# Altium integrated library Altera Stratix IV GT.IntLib: 42 symbols (part 34 of 84)
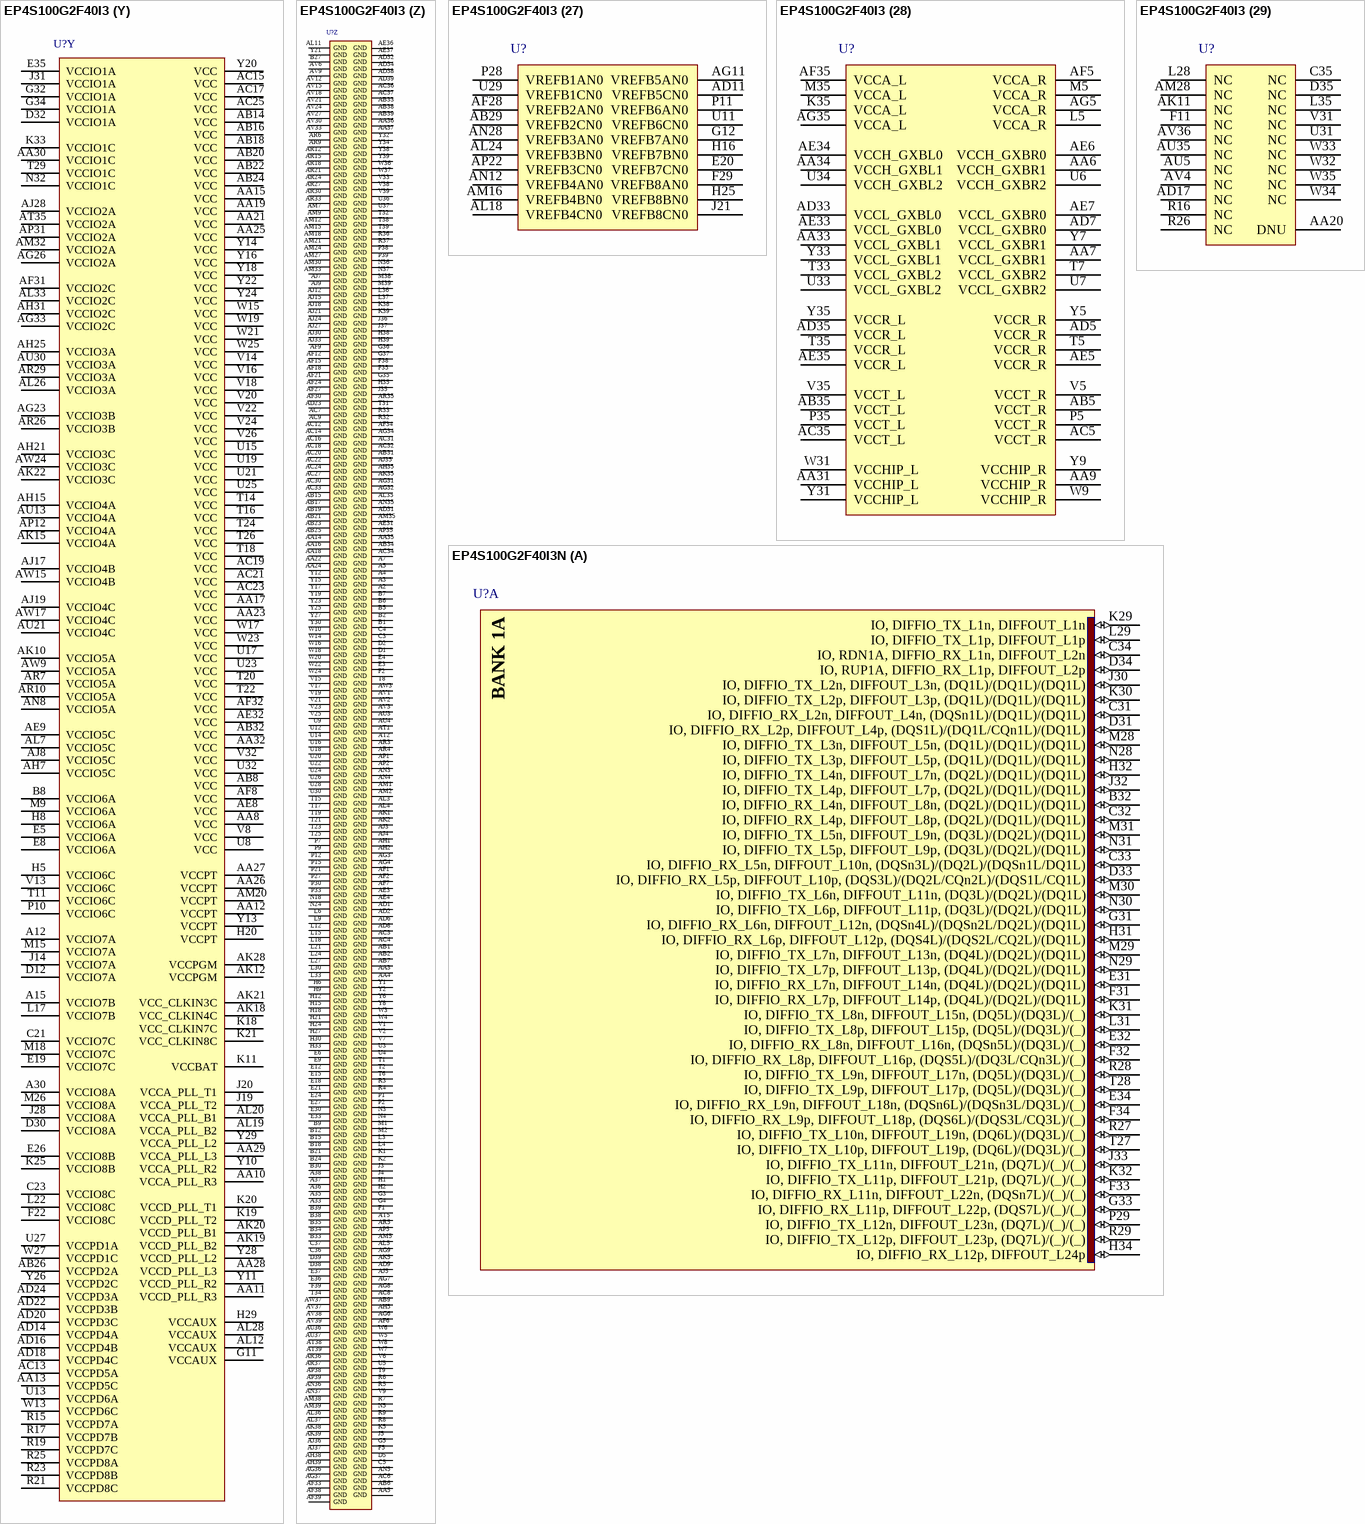
[diagram p302: symbols EP4S100G2F40I3 to EP4S100G2F40I3N]

## EP4S100G2F40I3 (continued)
part Z pins: A2 GND (power), A3 GND (power), A4 GND (power), A5 GND (power), A7 GND (power), A33 GND (power), A35 GND (power), A36 GND (power), A37 GND (power), A38 GND (power), AA3 GND (power), AA4 GND (power), AA5 GND (power), AA14 GND (power), AA16 GND (power), AA18 GND (power), AA22 GND (power), AA24 GND (power), AA35 GND (power), AA36 GND (power), AA37 GND (power), AB1 GND (power), AB2 GND (power), AB6 GND (power), AB7 GND (power), AB9 GND (power), AB15 GND (power), AB17 GND (power), AB19 GND (power), AB21 GND (power), AB23 GND (power), AB25 GND (power), AB31 GND (power), AB33 GND (power), AB34 GND (power), AB38 GND (power), AB39 GND (power), AC3 GND (power), AC4 GND (power), AC6 GND (power), AC7 GND (power), AC8 GND (power), AC9 GND (power), AC12 GND (power), AC14 GND (power), AC16 GND (power), AC18 GND (power), AC20 GND (power), AC22 GND (power), AC24 GND (power), AC27 GND (power), AC30 GND (power), AC31 GND (power), AC32 GND (power), AC33 GND (power), AC34 GND (power), AC36 GND (power), AC37 GND (power), AD1 GND (power), AD2 GND (power), AD6 GND (power), AD8 GND (power), AD9 GND (power), AD23 GND (power), AD31 GND (power), AD32 GND (power), AD34 GND (power), AD38 GND (power), AD39 GND (power), AE3 GND (power), AE4 GND (power), AE31 GND (power), AE36 GND (power), AE37 GND (power), AF1 GND (power), AF2 GND (power), AF6 GND (power), AF7 GND (power), AF9 GND (power), AF12 GND (power), AF15 GND (power), AF18 GND (power), AF21 GND (power), AF24 GND (power), AF27 GND (power), AF30 GND (power), AF33 GND (power), AF34 GND (power), AF38 GND (power), AF39 GND (power), AG3 GND (power), AG4 GND (power), AG6 GND (power), AG7 GND (power), AG8 GND (power), AG9 GND (power), AG31 GND (power), AG32 GND (power), AG34 GND (power), AG36 GND (power), AG37 GND (power), AH1 GND (power), AH2 GND (power), AH5 GND (power), AH35 GND (power), AH38 GND (power), AH39 GND (power), AJ3 GND (power), AJ4 GND (power), AJ5 GND (power), AJ7 GND (power), AJ9 GND (power), AJ12 GND (power), AJ15 GND (power), AJ18 GND (power), AJ21 GND (power), AJ24 GND (power), AJ27 GND (power), AJ30 GND (power), AJ33 GND (power), AJ35 GND (power), AJ36 GND (power), AJ37 GND (power), AK1 GND (power), AK2 GND (power), AK5 GND (power), AK35 GND (power), AK38 GND (power), AK39 GND (power), AL3 GND (power), AL4 GND (power), AL5 GND (power), AL11 GND (power), AL35 GND (power), AL36 GND (power), AL37 GND (power), AM1 GND (power), AM2 GND (power), AM5 GND (power), AM7 GND (power), AM9 GND (power), AM12 GND (power), AM15 GND (power), AM18 GND (power), AM21 GND (power), AM24 GND (power), AM27 GND (power), AM30 GND (power), AM33 GND (power), AM35 GND (power), AM38 GND (power), AM39 GND (power), AN3 GND (power), AN4 GND (power), AN5 GND (power), AN35 GND (power), AN36 GND (power), AN37 GND (power), AP1 GND (power), AP2 GND (power), AP5 GND (power), AP35 GND (power), AP38 GND (power), AP39 GND (power), AR3 GND (power), AR4 GND (power), AR5 GND (power), AR6 GND (power), AR9 GND (power), AR12 GND (power), AR15 GND (power), AR18 GND (power), AR21 GND (power), AR24 GND (power), AR27 GND (power), AR30 GND (power), AR33 GND (power), AR35 GND (power), AR36 GND (power), AR37 GND (power), AT1 GND (power), AT2 GND (power), AT5 GND (power), AT38 GND (power), AT39 GND (power), AU3 GND (power), AU4 GND (power), AU36 GND (power), AU37 GND (power), AV1 GND (power), AV2 GND (power), AV3 GND (power), AV6 GND (power), AV9 GND (power), AV12 GND (power), AV15 GND (power), AV18 GND (power), AV21 GND (power), AV24 GND (power), AV27 GND (power), AV30 GND (power), AV33 GND (power), AV37 GND (power), AV38 GND (power), AV39 GND (power), AW3 GND (power), AW37 GND (power), B1 GND (power), B2 GND (power), B5 GND (power), B6 GND (power), B7 GND (power), B9 GND (power), B12 GND (power), B15 GND (power), B18 GND (power), B21 GND (power), B24 GND (power), B27 GND (power), B30 GND (power), B33 GND (power), B34 GND (power), B35 GND (power), B38 GND (power), B39 GND (power), C3 GND (power), C4 GND (power), C5 GND (power), C36 GND (power), C37 GND (power), D1 GND (power), D2 GND (power), D5 GND (power), D38 GND (power), D39 GND (power), E3 GND (power), E4 GND (power), E6 GND (power), E9 GND (power), E12 GND (power), E15 GND (power), E18 GND (power), E21 GND (power), E24 GND (power), E27 GND (power), E30 GND (power), E33 GND (power), E36 GND (power), E37 GND (power), F1 GND (power), F2 GND (power), F5 GND (power), F35 GND (power), F38 GND (power), F39 GND (power), G3 GND (power), G4 GND (power), G5 GND (power), G35 GND (power), G36 GND (power), G37 GND (power), H1 GND (power), H2 GND (power), H6 GND (power), H9 GND (power), H12 GND (power), H15 GND (power), H18 GND (power), H21 GND (power), H24 GND (power), H27 GND (power), H30 GND (power), H33 GND (power), H35 GND (power), H38 GND (power), H39 GND (power), J3 GND (power), J4 GND (power), J5 GND (power), J35 GND (power), J36 GND (power), J37 GND (power), K1 GND (power), K2 GND (power), K5 GND (power), K38 GND (power), K39 GND (power), L3 GND (power), L4 GND (power), L6 GND (power), L9 GND (power), L12 GND (power), L15 GND (power), L18 GND (power), L21 GND (power), L24 GND (power), L27 GND (power), L30 GND (power), L33 GND (power), L36 GND (power), L37 GND (power), M1 GND (power), M2 GND (power), M38 GND (power), M39 GND (power), N3 GND (power), N4 GND (power), N5 GND (power), N18 GND (power), N24 GND (power), N36 GND (power), N37 GND (power), P1 GND (power), P2 GND (power), P7 GND (power), P9 GND (power), P12 GND (power), P15 GND (power), P21 GND (power), P27 GND (power), P30 GND (power), P33 GND (power), P38 GND (power), P39 GND (power), R3 GND (power), R4 GND (power), R5 GND (power), R6 GND (power), R7 GND (power), R8 GND (power), R9 GND (power), R32 GND (power), R33 GND (power), R36 GND (power), R37 GND (power), T1 GND (power), T2 GND (power), T6 GND (power), T8 GND (power), T9 GND (power), T15 GND (power), T17 GND (power), T19 GND (power), T21 GND (power), T23 GND (power), T25 GND (power), T31 GND (power), T32 GND (power), T34 GND (power), T38 GND (power), T39 GND (power), U3 GND (power), U4 GND (power), U5 GND (power), U9 GND (power), U12 GND (power), U14 GND (power), U16 GND (power), U18 GND (power), U20 GND (power), U22 GND (power), U24 GND (power), U26 GND (power), U28 GND (power), U30 GND (power), U36 GND (power), U37 GND (power), V1 GND (power), V2 GND (power), V6 GND (power), V7 GND (power), V9 GND (power), V15 GND (power), V17 GND (power), V19 GND (power), V21 GND (power), V23 GND (power), V25 GND (power), V33 GND (power), V38 GND (power), V39 GND (power), W3 GND (power), W4 GND (power), W5 GND (power), W6 GND (power), W7 GND (power), W8 GND (power), W10 GND (power), W14 GND (power), W16 GND (power), W18 GND (power), W20 GND (power), W22 GND (power), W24 GND (power), W36 GND (power), W37 GND (power), Y1 GND (power), Y2 GND (power), Y6 GND (power), Y8 GND (power), Y12 GND (power), Y15 GND (power), Y17 GND (power), Y19 GND (power), Y21 GND (power), Y23 GND (power), Y25 GND (power), Y27 GND (power), Y30 GND (power), Y32 GND (power), Y34 GND (power), Y38 GND (power), Y39 GND (power)
part 27 pins: AB29 VREFB2CN0 (power), AD11 VREFB5CN0 (power), AF28 VREFB2AN0 (power), AG11 VREFB5AN0 (power), AL18 VREFB4CN0 (power), AL24 VREFB3BN0 (power), AM16 VREFB4BN0 (power), AN12 VREFB4AN0 (power), AN28 VREFB3AN0 (power), AP22 VREFB3CN0 (power), E20 VREFB7CN0 (power), F29 VREFB8AN0 (power), G12 VREFB7AN0 (power), H16 VREFB7BN0 (power), H25 VREFB8BN0 (power), J21 VREFB8CN0 (power), P11 VREFB6AN0 (power), P28 VREFB1AN0 (power), U11 VREFB6CN0 (power), U29 VREFB1CN0 (power)
part 28 pins: AA6 VCCH_GXBR1 (power), AA7 VCCL_GXBR1 (power), AA9 VCCHIP_R (power), AA31 VCCHIP_L (power), AA33 VCCL_GXBL1 (power), AA34 VCCH_GXBL1 (power), AB5 VCCT_R (power), AB35 VCCT_L (power), AC5 VCCT_R (power), AC35 VCCT_L (power), AD5 VCCR_R (power), AD7 VCCL_GXBR0 (power), AD33 VCCL_GXBL0 (power), AD35 VCCR_L (power), AE5 VCCR_R (power), AE6 VCCH_GXBR0 (power), AE7 VCCL_GXBR0 (power), AE33 VCCL_GXBL0 (power), AE34 VCCH_GXBL0 (power), AE35 VCCR_L (power), AF5 VCCA_R (power), AF35 VCCA_L (power), AG5 VCCA_R (power), AG35 VCCA_L (power), K35 VCCA_L (power), L5 VCCA_R (power), M5 VCCA_R (power), M35 VCCA_L (power), P5 VCCT_R (power), P35 VCCT_L (power), T5 VCCR_R (power), T7 VCCL_GXBR2 (power), T33 VCCL_GXBL2 (power), T35 VCCR_L (power), U6 VCCH_GXBR2 (power), U7 VCCL_GXBR2 (power), U33 VCCL_GXBL2 (power), U34 VCCH_GXBL2 (power), V5 VCCT_R (power), V35 VCCT_L (power), W9 VCCHIP_R (power), W31 VCCHIP_L (power), Y5 VCCR_R (power), Y7 VCCL_GXBR1 (power), Y9 VCCHIP_R (power), Y31 VCCHIP_L (power), Y33 VCCL_GXBL1 (power), Y35 VCCR_L (power)
part 29 pins: AA20 DNU, AD17 NC, AK11 NC, AM28 NC, AU5 NC, AU35 NC, AV4 NC, AV36 NC, C35 NC, D35 NC, F11 NC, L28 NC, L35 NC, R16 NC, R26 NC, U31 NC, V31 NC, W32 NC, W33 NC, W34 NC, W35 NC
part A text: BANK 1A
part B text: BANK 1C
part C text: BANK 2A
part D text: BANK 2C
part E text: BANK 3A
part F text: BANK 3B
part G text: BANK 3C
part H text: BANK 4A
part I text: BANK 4B
part J text: BANK 4C
part K text: BANK 5A
part L text: BANK 5C
part M text: BANK 6A
part N text: BANK 6C
part O text: BANK 7A
part P text: BANK 7B
part Q text: BANK 7C
part R text: BANK 8A
part S text: BANK 8B
part T text: BANK 8C

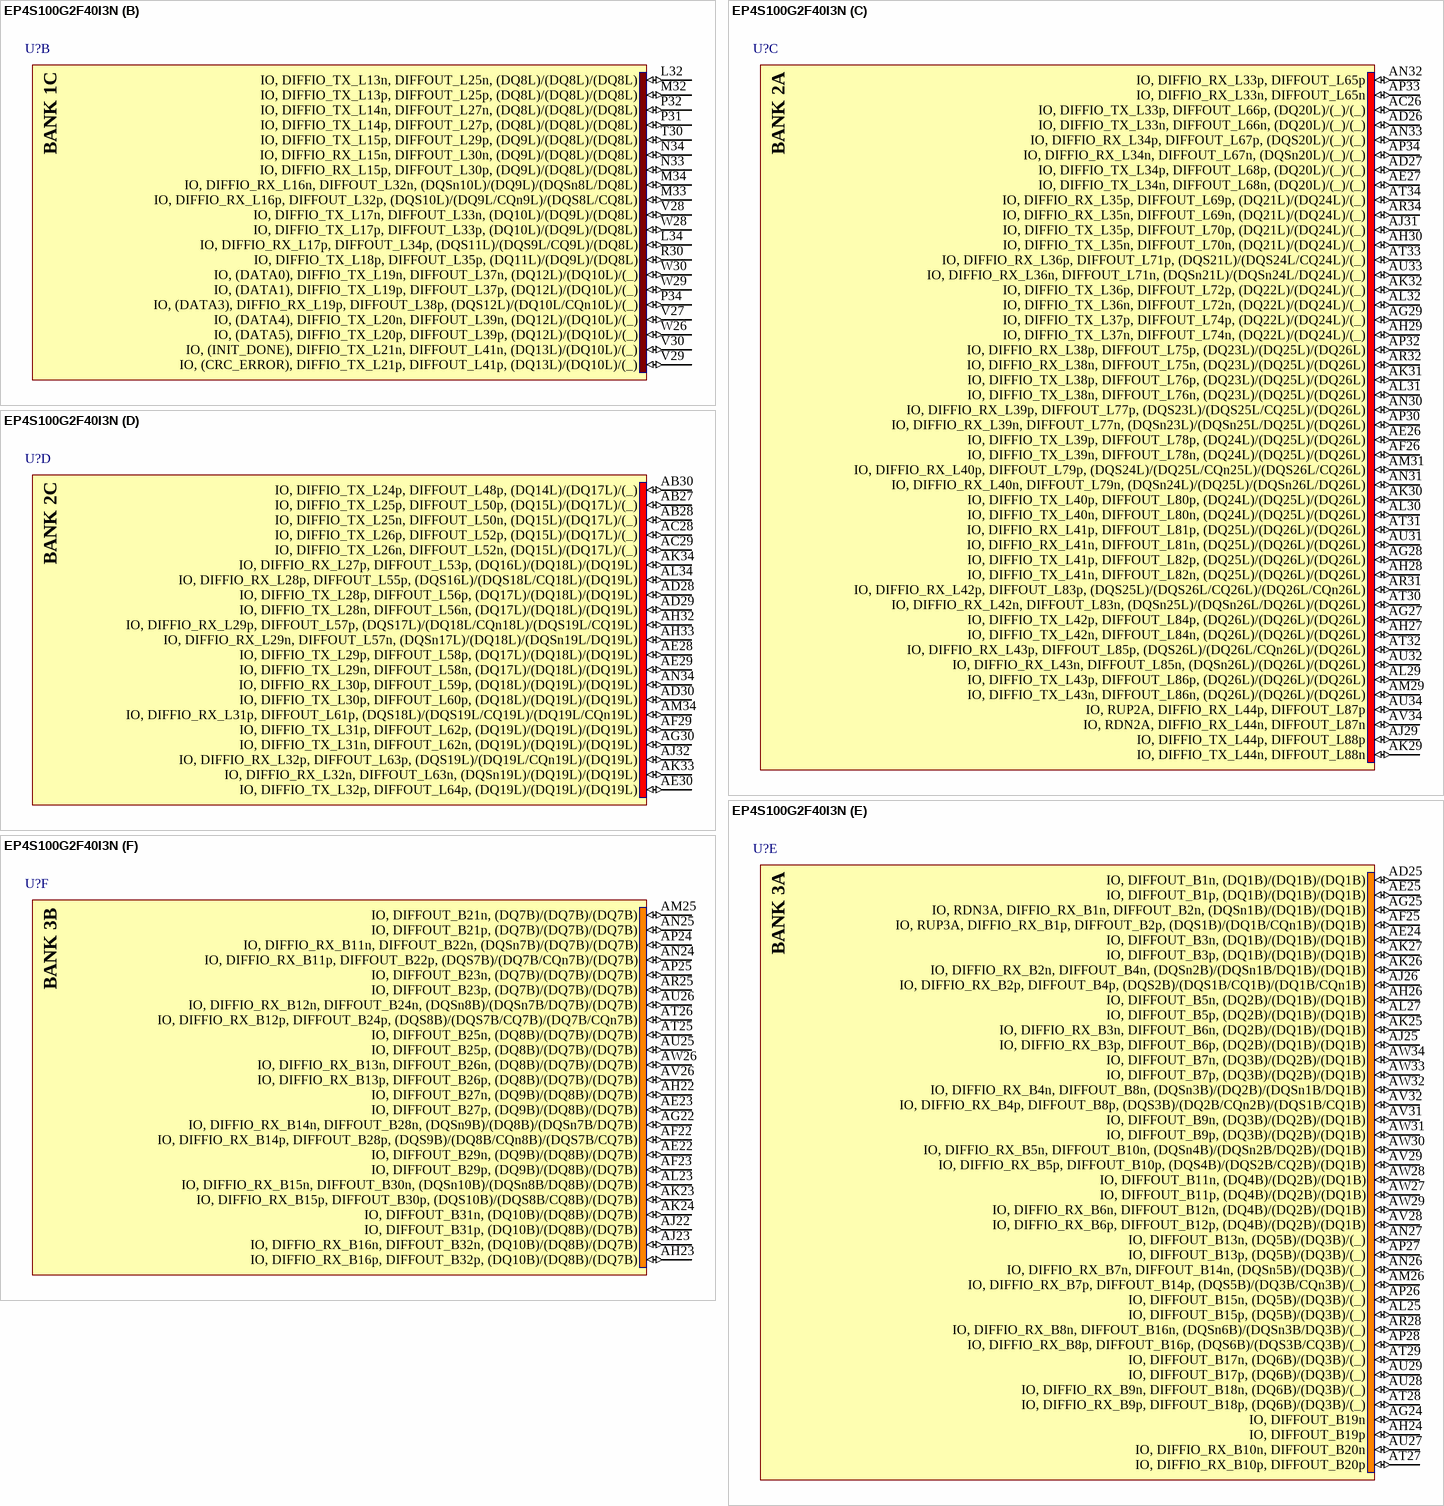
[diagram p102: symbol EP4S100G2F40I3N]

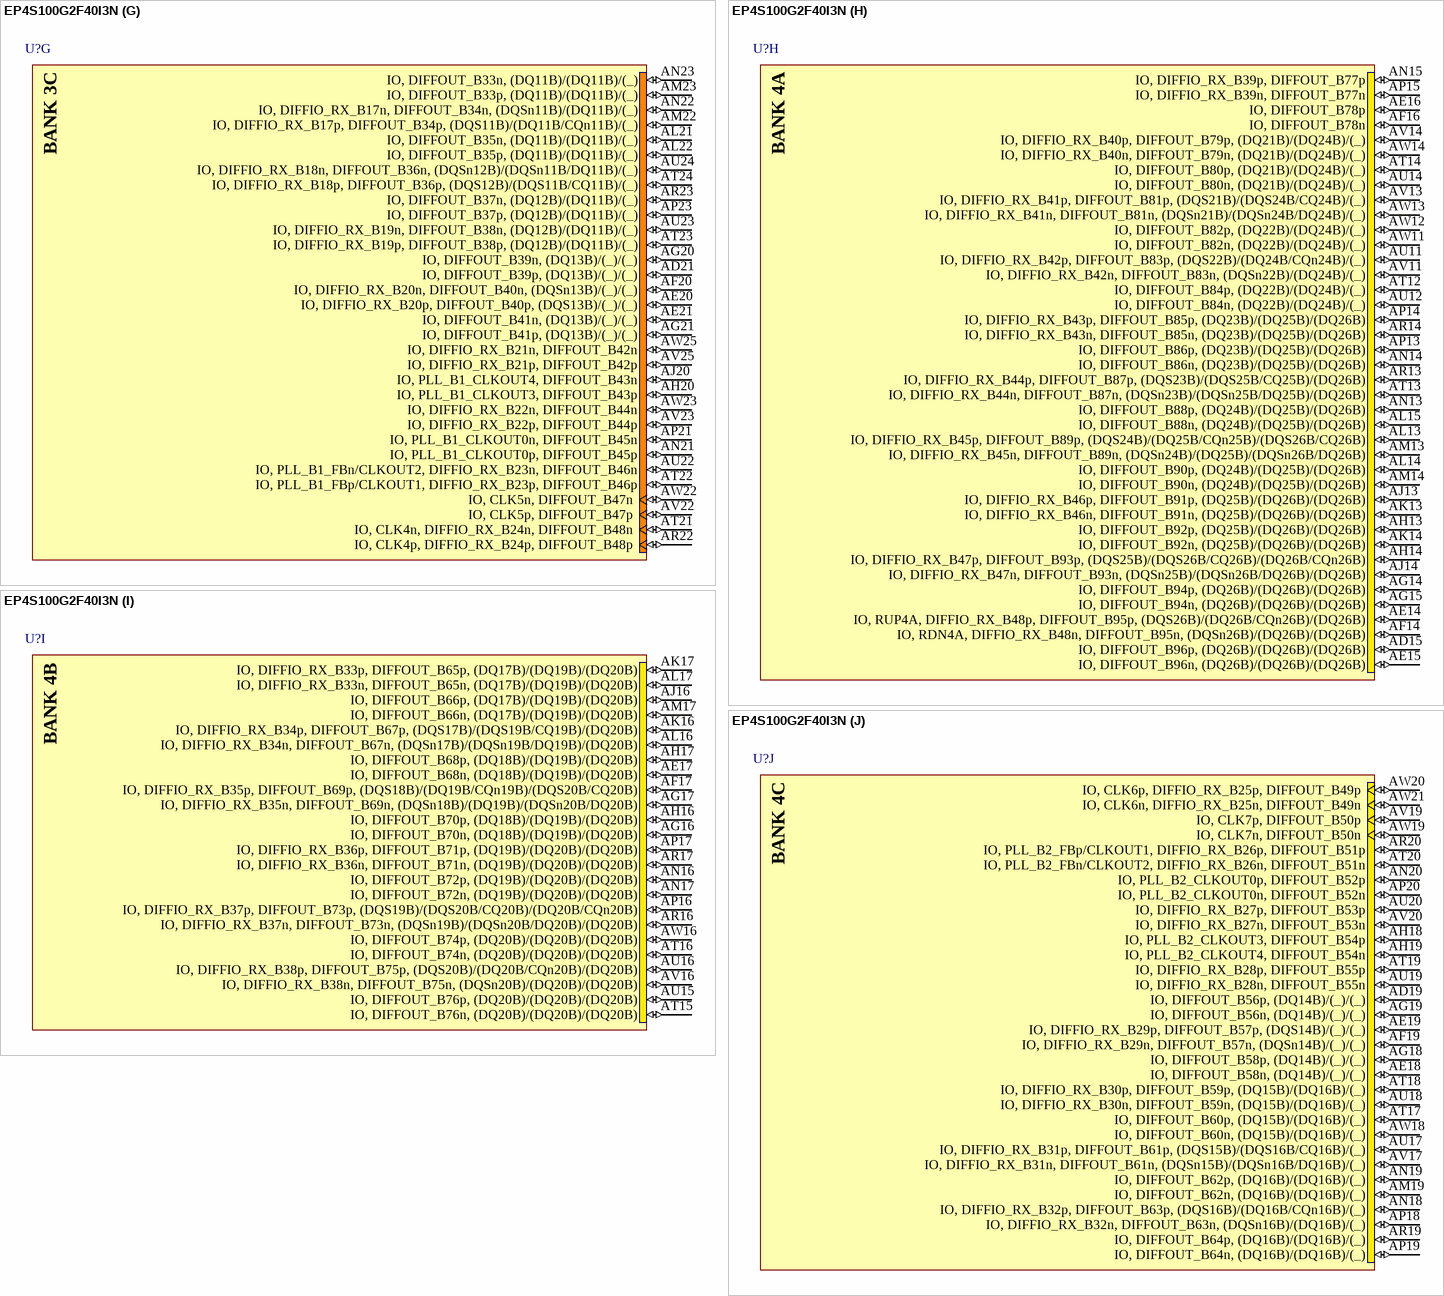
[diagram p103: symbol EP4S100G2F40I3N]

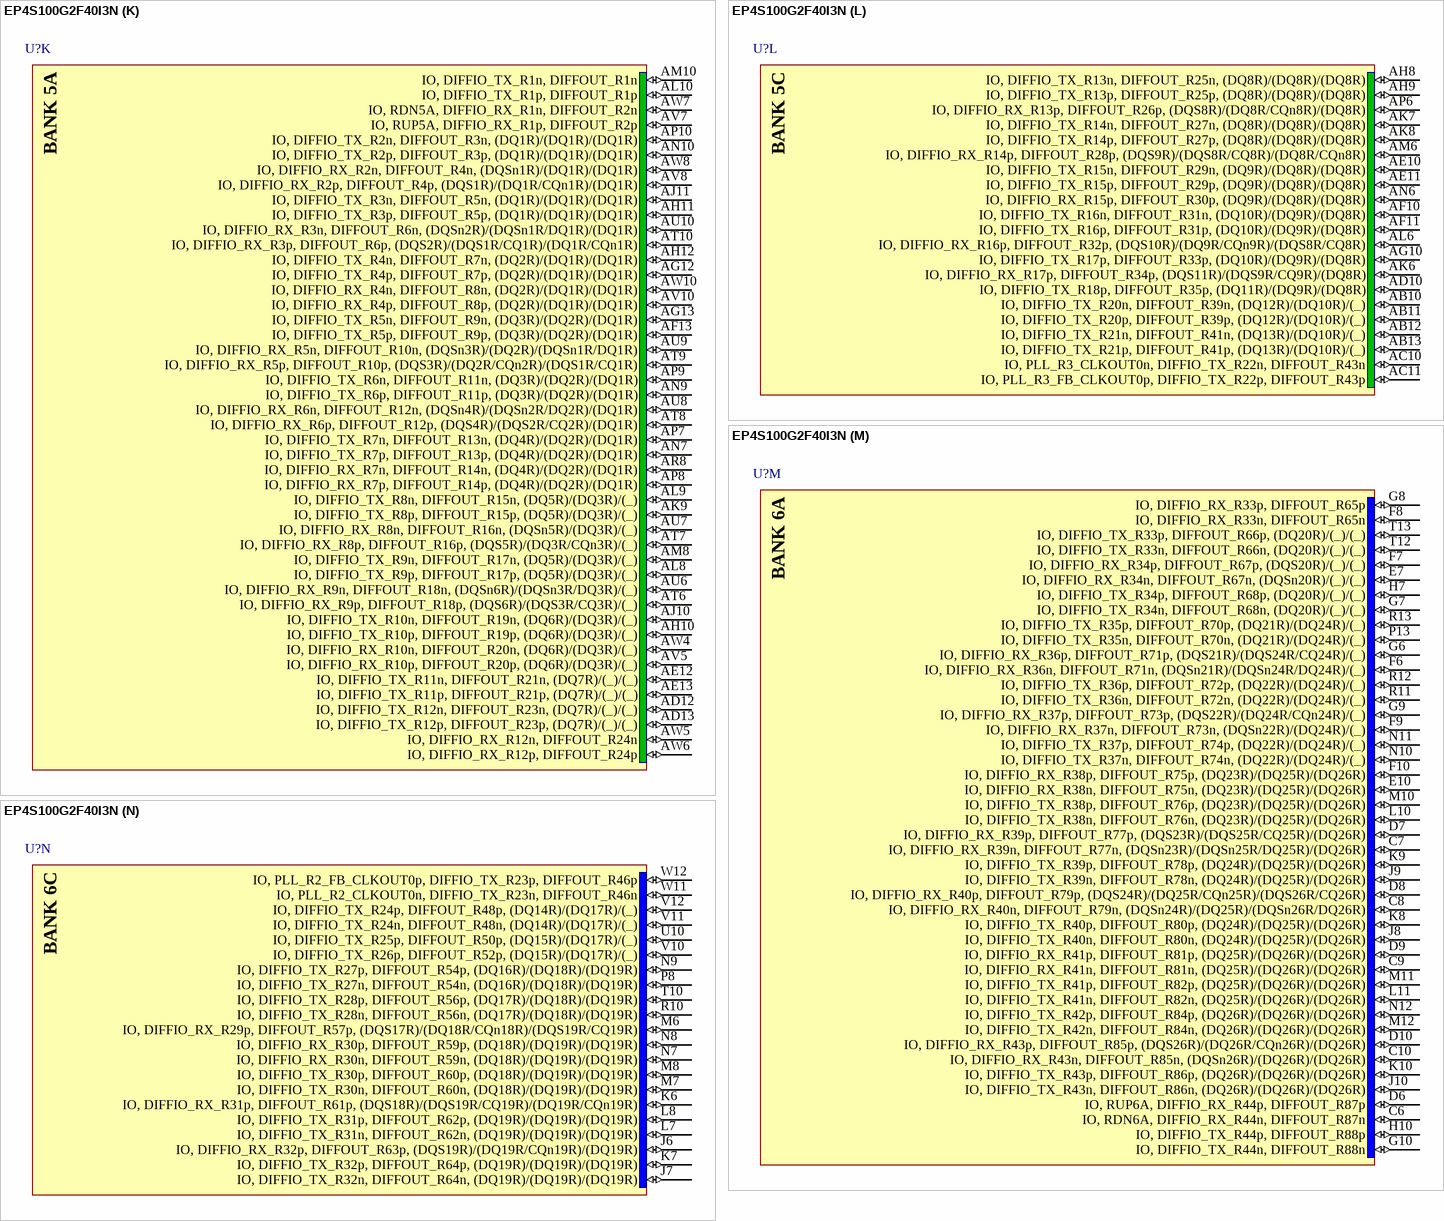
[diagram p104: symbol EP4S100G2F40I3N]

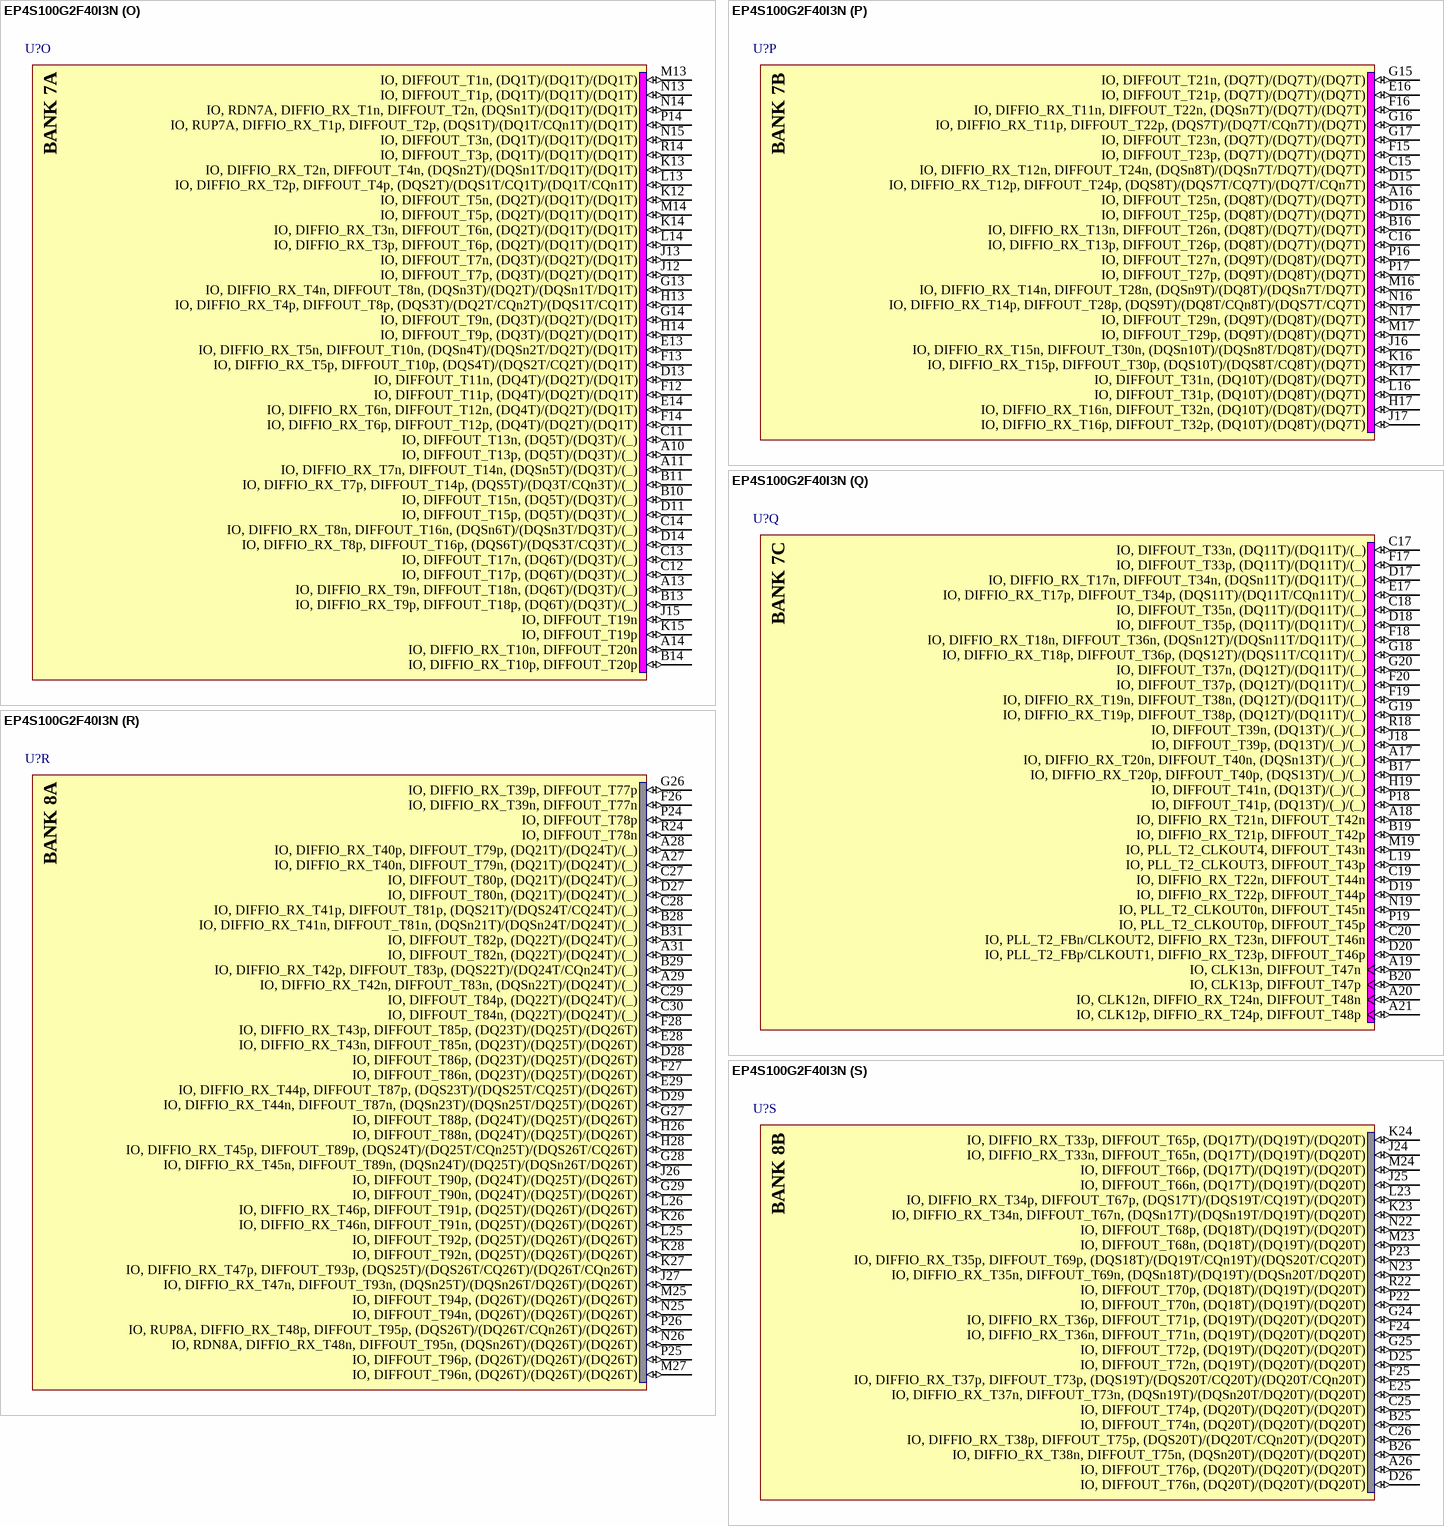
[diagram p105: symbol EP4S100G2F40I3N]

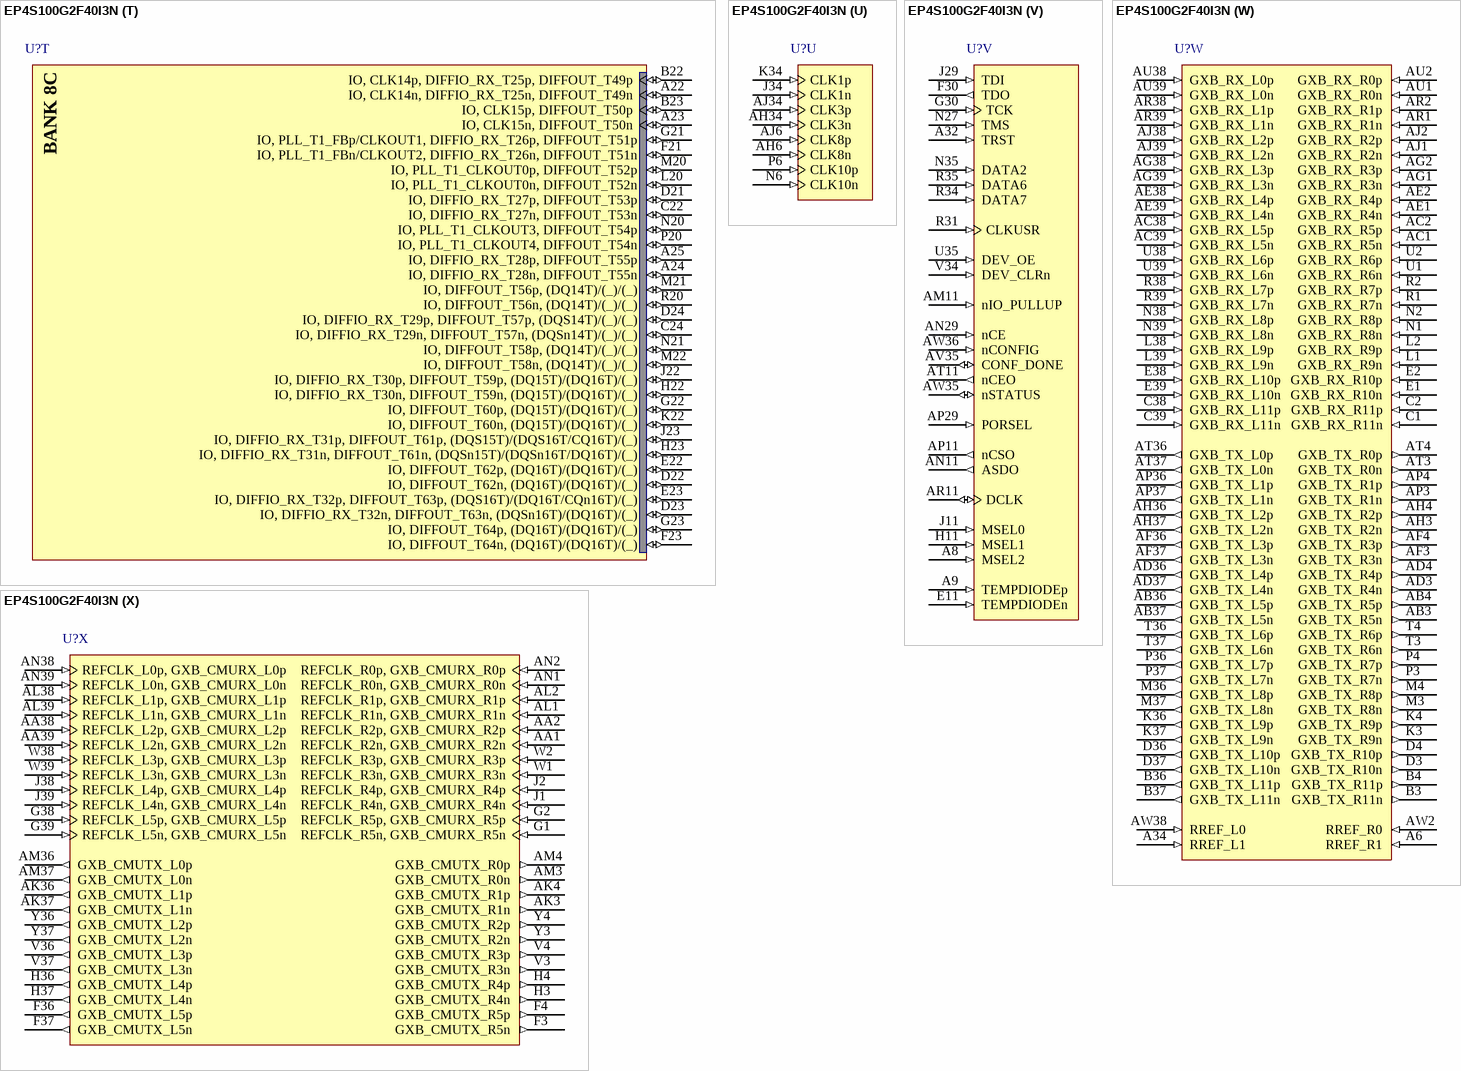
[diagram p106: symbol EP4S100G2F40I3N]

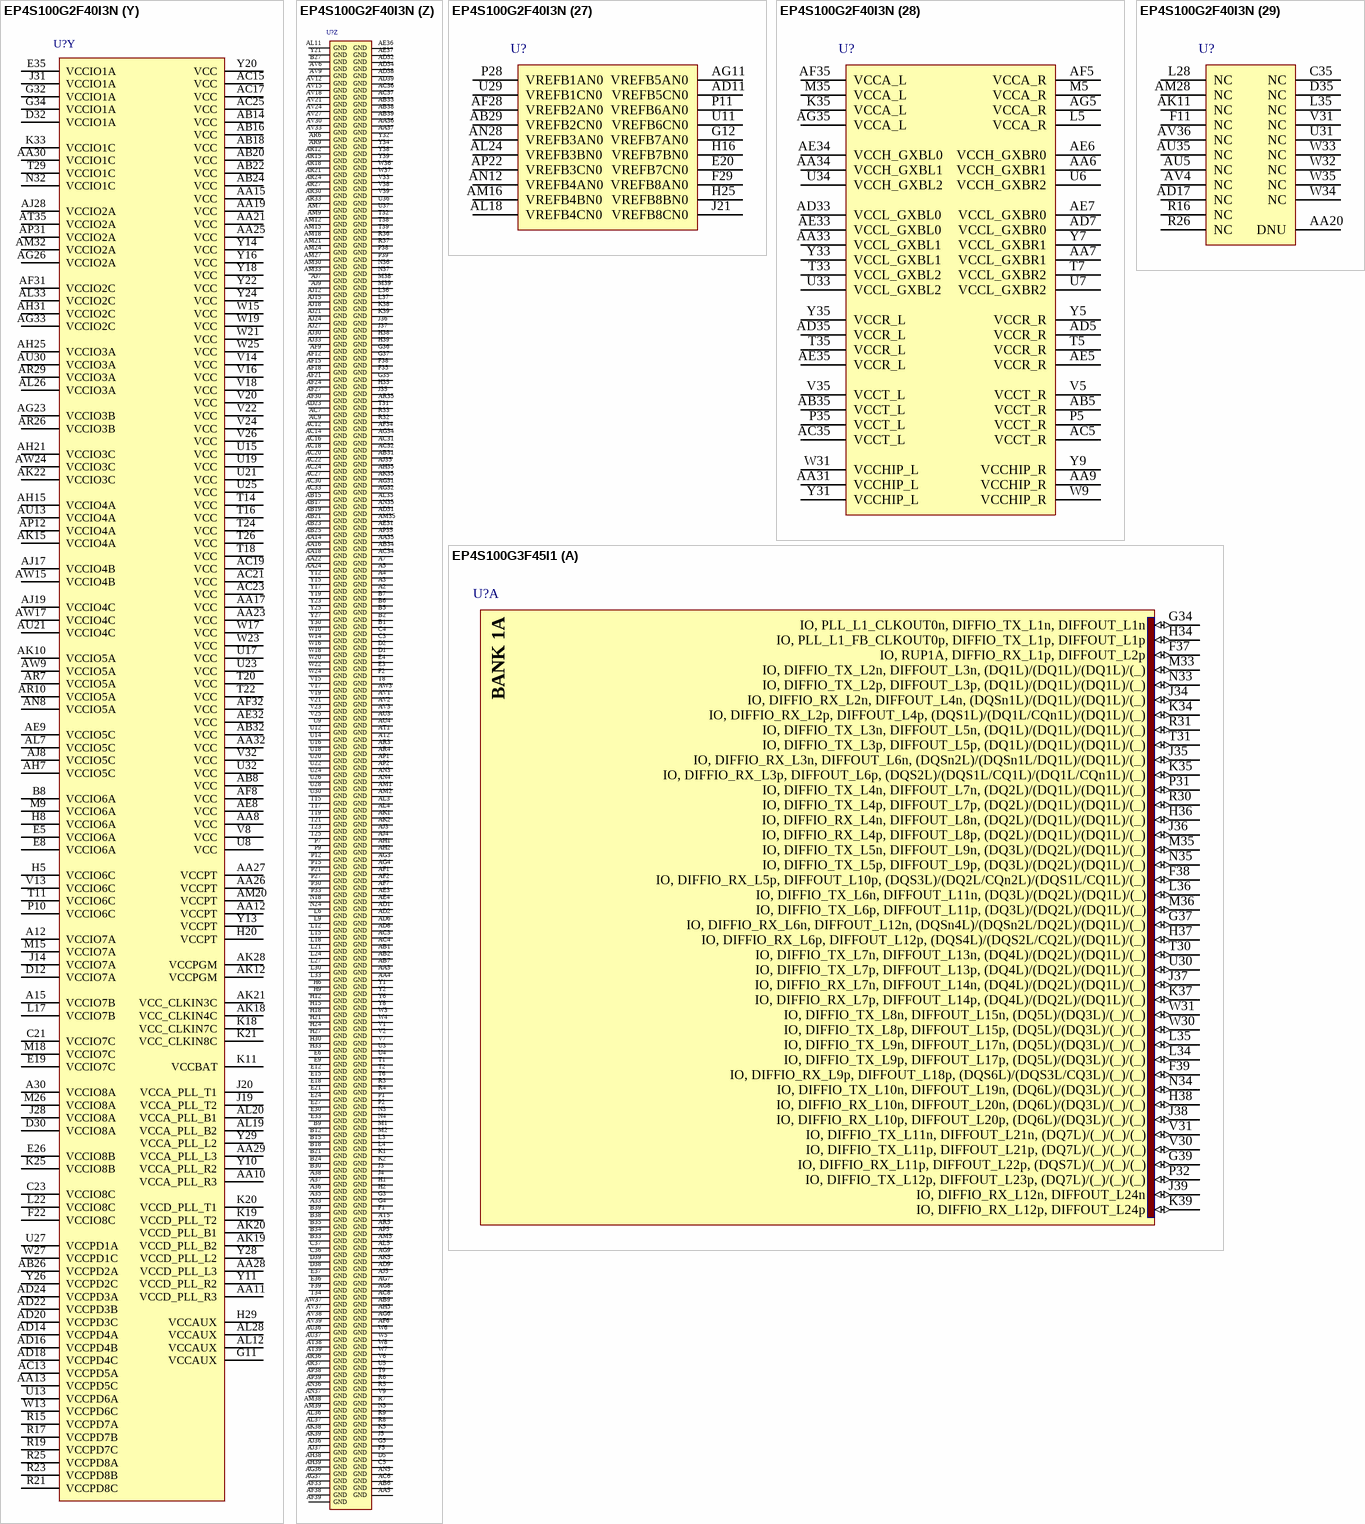
[diagram p107: symbols EP4S100G2F40I3N to EP4S100G3F45I1]